# EAGLE library part USB-C-FEMALE (library comma.ai)
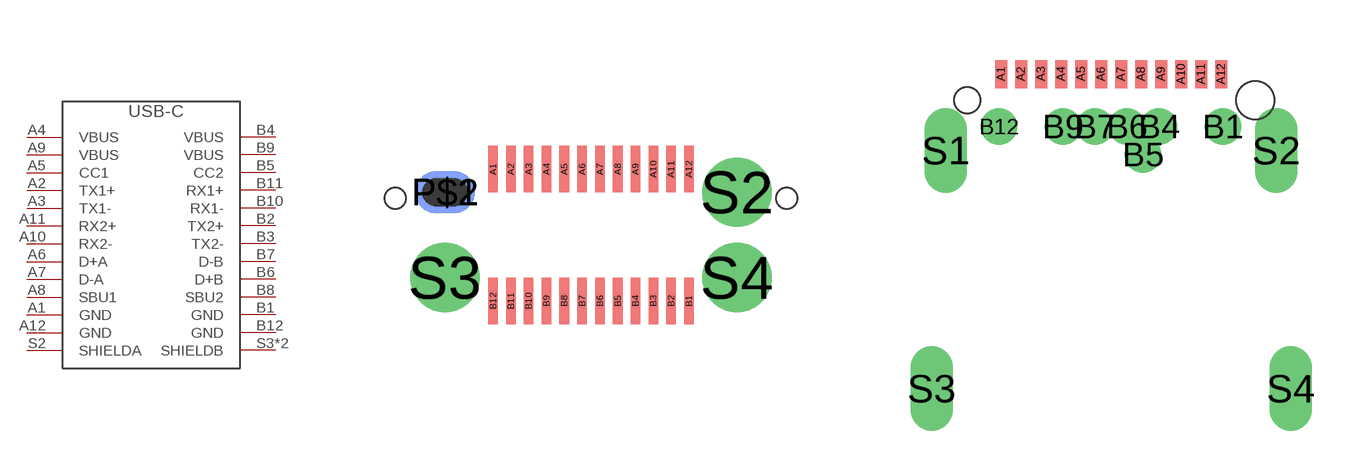
[diagram p34: symbol with the pads of USB-C-FEMALE-VERT; footprints USB-C-FEMALE-VERT, USB-C-FEMALE-RA]

Designator prefix J

## USB-C-FEMALEVERT  [USB-C-FEMALE-VERT]
A1  GND
A2  TX1+
A3  TX1-
A4  VBUS
A5  CC1
A6  D+A
A7  D-A
A8  SBU1
A9  VBUS
A10  RX2-
A11  RX2+
A12  GND
B1  GND
B2  TX2+
B3  TX2-
B4  VBUS
B5  CC2
B6  D+B
B7  D-B
B8  SBU2
B9  VBUS
B10  RX1-
B11  RX1+
B12  GND
S2  SHIELDA
S3  SHIELDB
S4  SHIELDB

## USB-C-FEMALERA  [USB-C-FEMALE-RA]
A1  GND
A2  TX1+
A3  TX1-
A4  VBUS
A5  CC1
A6  D+A
A7  D-A
A8  SBU1
A9  VBUS
A10  RX1-
A11  RX1+
A12  GND
B1  GND
B4  VBUS
B5  CC2
B6  D+B
B7  D-B
B9  VBUS
B12  GND
S1  SHIELDA
S2  SHIELDA
S3  SHIELDB
S4  SHIELDB

## USB-C-FEMALEMOL  [USB-C-FEMALE-RA-MOLEX]
A1  GND
A2  TX1+
A3  TX1-
A4  VBUS
A5  CC1
A6  D+A
A7  D-A
A8  SBU1
A9  VBUS
A10  RX2-
A11  RX2+
A12  GND
B1  GND
B2  TX2+
B3  TX2-
B4  VBUS
B5  CC2
B6  D+B
B7  D-B
B8  SBU2
B9  VBUS
B10  RX1-
B11  RX1+
B12  GND
P$1  SHIELDA
P$2  SHIELDA
P$3  SHIELDB
P$4  SHIELDB

## Footprint USB-C-FEMALE-VERT (pad centres in mm)
smd 0.27 x 1.3: A1 -2.75,1.85; A2 -2.25,1.85; A3 -1.75,1.85; A4 -1.25,1.85; A5 -0.75,1.85; A6 -0.25,1.85; A7 0.25,1.85; A8 0.75,1.85; A9 1.25,1.85; A10 1.75,1.85; A11 2.25,1.85; A12 2.75,1.85; B1 2.75,-1.85; B2 2.25,-1.85; B3 1.75,-1.85; B4 1.25,-1.85; B5 0.75,-1.85; B6 0.25,-1.85; B7 -0.25,-1.85; B8 -0.75,-1.85; B9 -1.25,-1.85; B10 -1.75,-1.85; B11 -2.25,-1.85; B12 -2.75,-1.85
smd 1.7 x 1.2: P$1 -4.1,1.2
smd 1.7 x 1.2 bottom: P$2 -4.1,1.2
drill 1.3 pad 1.7: S2 4.1,1.2; S3 -4.1,-1.2; S4 4.1,-1.2
hole 0.6 at -5.5,1.03
hole 0.6 at 5.5,1.03

## Footprint USB-C-FEMALE-RA (pad centres in mm)
smd 0.3 x 0.7: A1 -2.75,0; A2 -2.25,0; A3 -1.75,0; A4 -1.25,0; A5 -0.75,0; A6 -0.25,0; A7 0.25,0; A8 0.75,0; A9 1.25,0; A10 1.75,0; A11 2.25,0; A12 2.75,0
drill 0.4 pad 0.65: B1 2.8,-1.31; B4 1.2,-1.31; B5 0.8,-2.01; B6 0.4,-1.31; B7 -0.4,-1.31; B9 -1.2,-1.31; B12 -2.8,-1.31
drill 0.55 pad 0.7 long: S1 -4.13,-1.91; S2 4.13,-1.91; S3 -4.49,-7.86; S4 4.49,-7.86
hole 0.65 at -3.6,-0.66
hole 0.95 at 3.6,-0.66

## Footprint USB-C-FEMALE-RA-MOLEX (pad centres in mm)
smd 0.3 x 0.7: A1 -3,0; A2 -2.5,0; A3 -2,0; A4 -1.5,0; A5 -1,0; A6 -0.5,0; A7 0.5,0; A8 1,0; A9 1.5,0; A10 2,0; A11 2.5,0; A12 3,0; B2 2.25,-1.3; B3 1.75,-1.3; B4 1.25,-1.3; B5 0.75,-1.3; B6 0.25,-1.3; B7 -0.25,-1.3; B8 -0.75,-1.3; B9 -1.25,-1.3; B10 -1.75,-1.3; B11 -2.25,-1.3
smd 1 x 0.7: B1 3.1,-1.3; B12 -3.1,-1.3
drill 0.8 pad 1.05 long: P$1 -4.32,-0.41; P$2 4.32,-0.41
drill 1 pad 1.3 long: P$3 -4.32,-5.77; P$4 4.32,-5.77